# EAGLE library part Q_PTN78020 (library MRDT-2014-All)
TI DC/DC converter 36Vin - Adjustable output
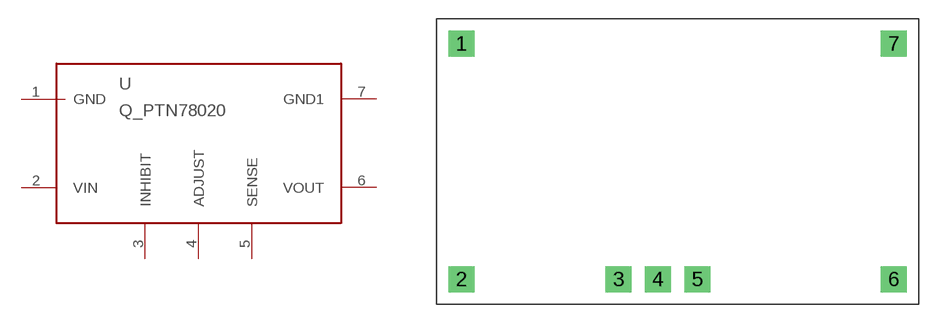
[diagram p2: symbol with the pads of R_PDSS-T7; footprint R_PDSS-T7]

Designator prefix -

## Q_PTN78020  [R_PDSS-T7]
1  GND
2  VIN
3  INHIBIT
4  ADJUST
5  SENSE
6  VOUT
7  GND1

## Footprint R_PDSS-T7 (pad centres in mm)
drill 1.4 square: 1 -17.47,9.53; 2 -17.47,-9.52; 3 -4.77,-9.52; 4 -1.59,-9.52; 5 1.59,-9.52; 6 17.47,-9.52; 7 17.47,9.53